# Altium footprint library PcbLib1_TRP.PcbLib: 5 footprints
Each footprint in its own frame and in the unit in brackets; x right, y up, seen from the top. Pads: shape width x height; smd on the part's side, far side on the other; paste and mask are expansions set on the pad; w line width, h text height; cw(c..) or ccw(c..) is an arc to the next point about the centre after c.
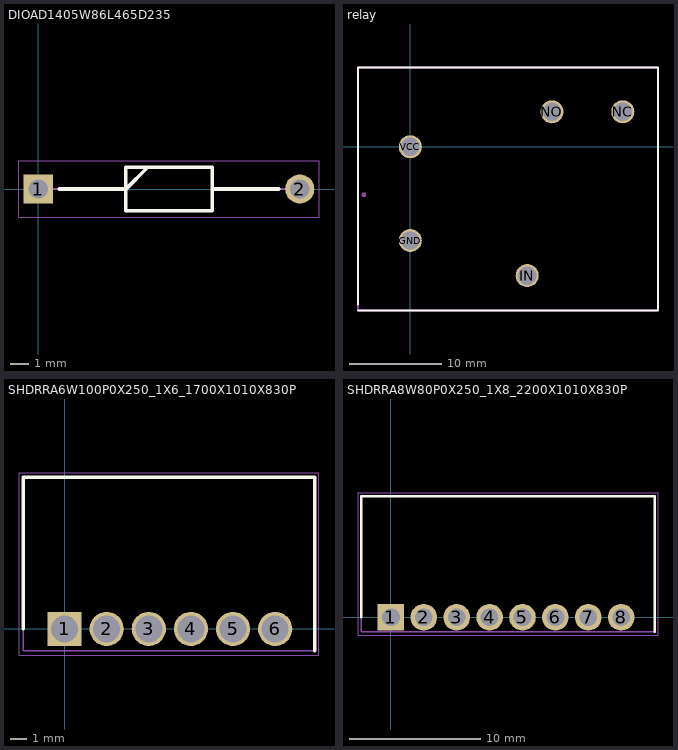
[diagram p0: the footprints below, top view; thin cyan lines are the x and y axes]

## DIOAD1405W86L465D235 [mm]
pads (2):
  rect 1.575x1.575 hole 1.05: 1(0,0)
  round 1.575 hole 1.05: 2(14.1,0)
Top Overlay:
  lines w0.2: 1.138,0 4.725,0 5.9,1.175 ; 9.375,0 12.962,0 ; 4.725,-1.175 4.725,1.175 9.375,1.175 9.375,-1.175 4.725,-1.175
Mechanical 13:
  lines w0.1: 0,0 4.725,0 5.9,1.175 ; 9.375,0 14.1,0 ; 4.725,-1.175 4.725,1.175 9.375,1.175 9.375,-1.175 4.725,-1.175
Mechanical 15:
  lines w0.05: -1.038,-1.525 -1.038,1.525 15.137,1.525 15.137,-1.525 -1.038,-1.525
3D body "1N4007-E3_73.stp": height 2.7, standoff -2.7, extent -0.43,-1.34 14.48,1.34

## PCBComponent_1 [mm]

## relay [mm]
pads (5):
  round 2.5 hole 2: GND(0,-10.185) IN(12.708,-13.995) NC(23.099,3.81) NO(15.4,3.81) VCC(0,0)
Top Overlay:
  lines w0.2: -5.682,-17.805 26.92,-17.805 ; -5.682,-17.145 -5.682,-11.359 -5.682,-3.109 -5.682,-2.078 -5.682,-0.015 -5.682,8.636 26.924,8.636 26.924,-17.653
Mechanical 13:
  circle w0.254: c-5.047,-5.207 r0.127
  lines w0.2: 26.83,-17.78 -5.682,-17.78 -5.682,8.636 0.818,8.636 17.119,8.636 26.92,8.636 26.92,-17.013
  text "'.Designator'" at 13.408,9.236 h1.2

## SHDRRA6W100P0X250_1X6_1700X1010X830P [mil]
pads (6):
  rect 80x80 hole 62.99: 1(0,0)
  round 80 hole 62.99: 2(98.43,0) 3(196.85,0) 4(295.28,0) 5(393.7,0) 6(492.13,0)
Top Overlay:
  lines w7.87: -96.46,0 -96.46,354.33 584.65,354.33 584.65,-51.18
Mechanical 13:
  lines w3.94: -96.46,-51.18 -96.46,354.33 584.65,354.33 584.65,-51.18 -96.46,-51.18
Mechanical 15:
  lines w1.97: -106.3,-61.02 594.49,-61.02 594.49,364.17 -106.3,364.17 -106.3,-61.02
3D body "691382010006.stp": height 326.77, standoff -145.67, extent -88.58,-43.31 580.71,354.33

## SHDRRA8W80P0X250_1X8_2200X1010X830P [mm]
pads (8):
  rect 2.025x2.025 hole 1.35: 1(0,0)
  round 2.025 hole 1.35: 2(2.5,0) 3(5,0) 4(7.5,0) 5(10,0) 6(12.5,0) 7(15,0) 8(17.5,0)
Top Overlay:
  lines w0.2: -2.25,0 -2.25,9.2 20.05,9.2 20.05,-1.1
Mechanical 13:
  lines w0.1: -2.25,-1.1 20.05,-1.1 20.05,9.2 -2.25,9.2 -2.25,-1.1
Mechanical 15:
  lines w0.05: -2.5,-1.35 -2.5,9.45 20.3,9.45 20.3,-1.35 -2.5,-1.35
3D body "691382010008.stp": height 8.3, standoff -3.7, extent -2.25,-1.1 19.75,9